# Altium schematic symbol library LM3671MF-1.8_NOPB.SchLib: 1 symbol
Pins are listed as number, name and electrical type; pins without a type are passive.

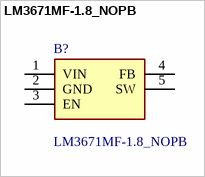
[diagram p0: symbol LM3671MF-1.8_NOPB]

## LM3671MF-1.8_NOPB
designator B?
2MHz, 600mA Step-Down DC-DC Converter; Manufacturer_Name: Texas Instruments; Manufacturer_Part_Number: LM3671MF-1.8/NOPB; Geometry.Height: 1.45mm; Mouser Part Number: 926-LM3671MF-1.8NOPB; Mouser Price/Stock: https://www.mouser.co.uk/ProductDetail/Texas-Instruments/LM3671MF-1.8-NOPB?qs=QbsRYf82W3EhbfgXz3PpIg%3D%3D; Datasheet Link: http://www.ti.com/lit/ds/symlink/lm3671.pdf
footprint SOT95P280X145-5N
pins: 1 VIN, 2 GND, 3 EN, 4 FB, 5 SW